# Altium footprint library TYCO_5-1814832-1.PcbLib: 1 footprints
Each footprint in its own frame and in the unit in brackets; x right, y up, seen from the top. Pads: shape width x height; smd on the part's side, far side on the other; paste and mask are expansions set on the pad; w line width, h text height; cw(c..) or ccw(c..) is an arc to the next point about the centre after c.
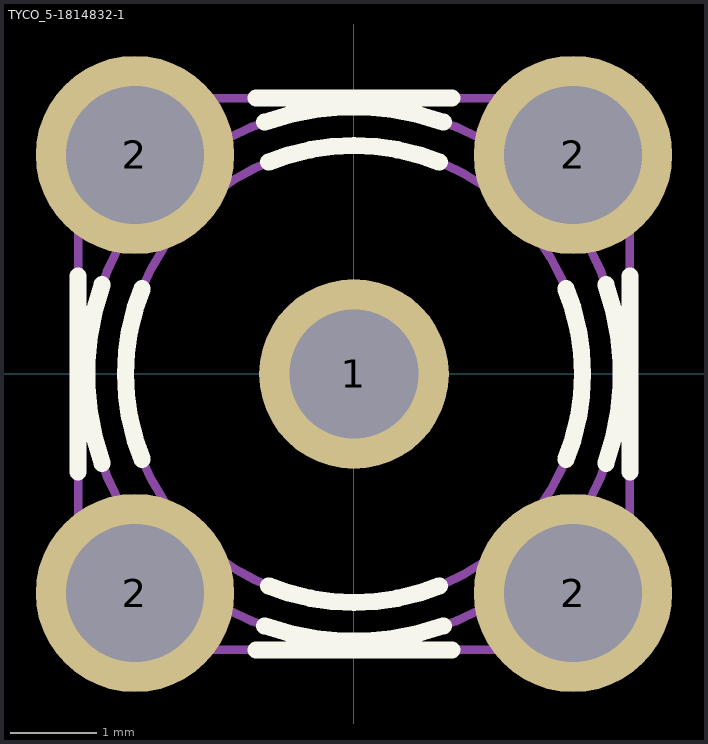
[diagram p0: the footprint, top view; thin cyan lines are the x and y axes]

## TYCO_5-1814832-1 [mm] "50 Ohm SMA Straight PCB Die Socket"
height 13.5
pads (5):
  round 2.2 hole 1.5: 1(0,0)
  round 2.3 hole 1.6: 2(-2.54,-2.54) 2(-2.54,2.54) 2(2.54,-2.54) 2(2.54,2.54)
Top Overlay:
  lines w0.2: -3.2,-1.138 -3.2,1.138 ; -2.921,-1.038 cw(c0,0) -2.921,1.038 ; -2.457,-0.992 cw(c0,0) -2.457,0.992 ; -1.138,-3.2 1.138,-3.2 ; -1.138,3.2 1.138,3.2 ; -1.038,-2.921 ccw(c0,0) 1.038,-2.921 ; -1.038,2.921 cw(c0,0) 1.038,2.921 ; -0.992,-2.457 ccw(c0,0) 0.992,-2.457 ; -0.992,2.457 cw(c0,0) 0.992,2.457 ; 2.457,-0.992 ccw(c0,0) 2.457,0.992 ; 2.921,-1.038 ccw(c0,0) 2.921,1.038 ; 3.2,-1.138 3.2,1.138
Mechanical 8:
  lines w0.1: -3.54,-2.54 -2.54,-2.54 ; -3.54,2.54 -2.54,2.54 ; -2.54,-3.54 -2.54,-2.54 ; -2.54,-1.54 -2.54,-2.54 ; -2.54,1.54 -2.54,2.54 ; -2.54,3.54 -2.54,2.54 ; -1.54,-2.54 -2.54,-2.54 ; -1.54,2.54 -2.54,2.54 ; -1,0 0,0 ; 0,-1 0,0 ; 0,1 0,0 ; 1,0 0,0 ; 1.54,-2.54 2.54,-2.54 ; 1.54,2.54 2.54,2.54 ; 2.54,-3.54 2.54,-2.54 ; 2.54,-1.54 2.54,-2.54 ; 2.54,1.54 2.54,2.54 ; 2.54,3.54 2.54,2.54 ; 3.54,-2.54 2.54,-2.54 ; 3.54,2.54 2.54,2.54
Mechanical 14:
  circle w0.1: c0,0 r3.1
  circle w0.1: c0,0 r2.65
  circle w0.1: c0,0 r0.5
  lines w0.1: -3.2,-2.797 -3.2,2.797 -2.797,3.2 2.797,3.2 3.2,2.797 3.2,-2.797 2.797,-3.2 -2.797,-3.2 -3.2,-2.797
3D body "TYCO_5-1814832-1.stp": height 9.5, standoff -4, extent -3.2,-3.2 3.2,3.2